# Altium footprint library PcbLib1.PcbLib: 259 footprints (part 9 of 17)
Each footprint in its own frame and in the unit in brackets; x right, y up, seen from the top. Pads: shape width x height; smd on the part's side, far side on the other; paste and mask are expansions set on the pad; w line width, h text height; cw(c..) or ccw(c..) is an arc to the next point about the centre after c.
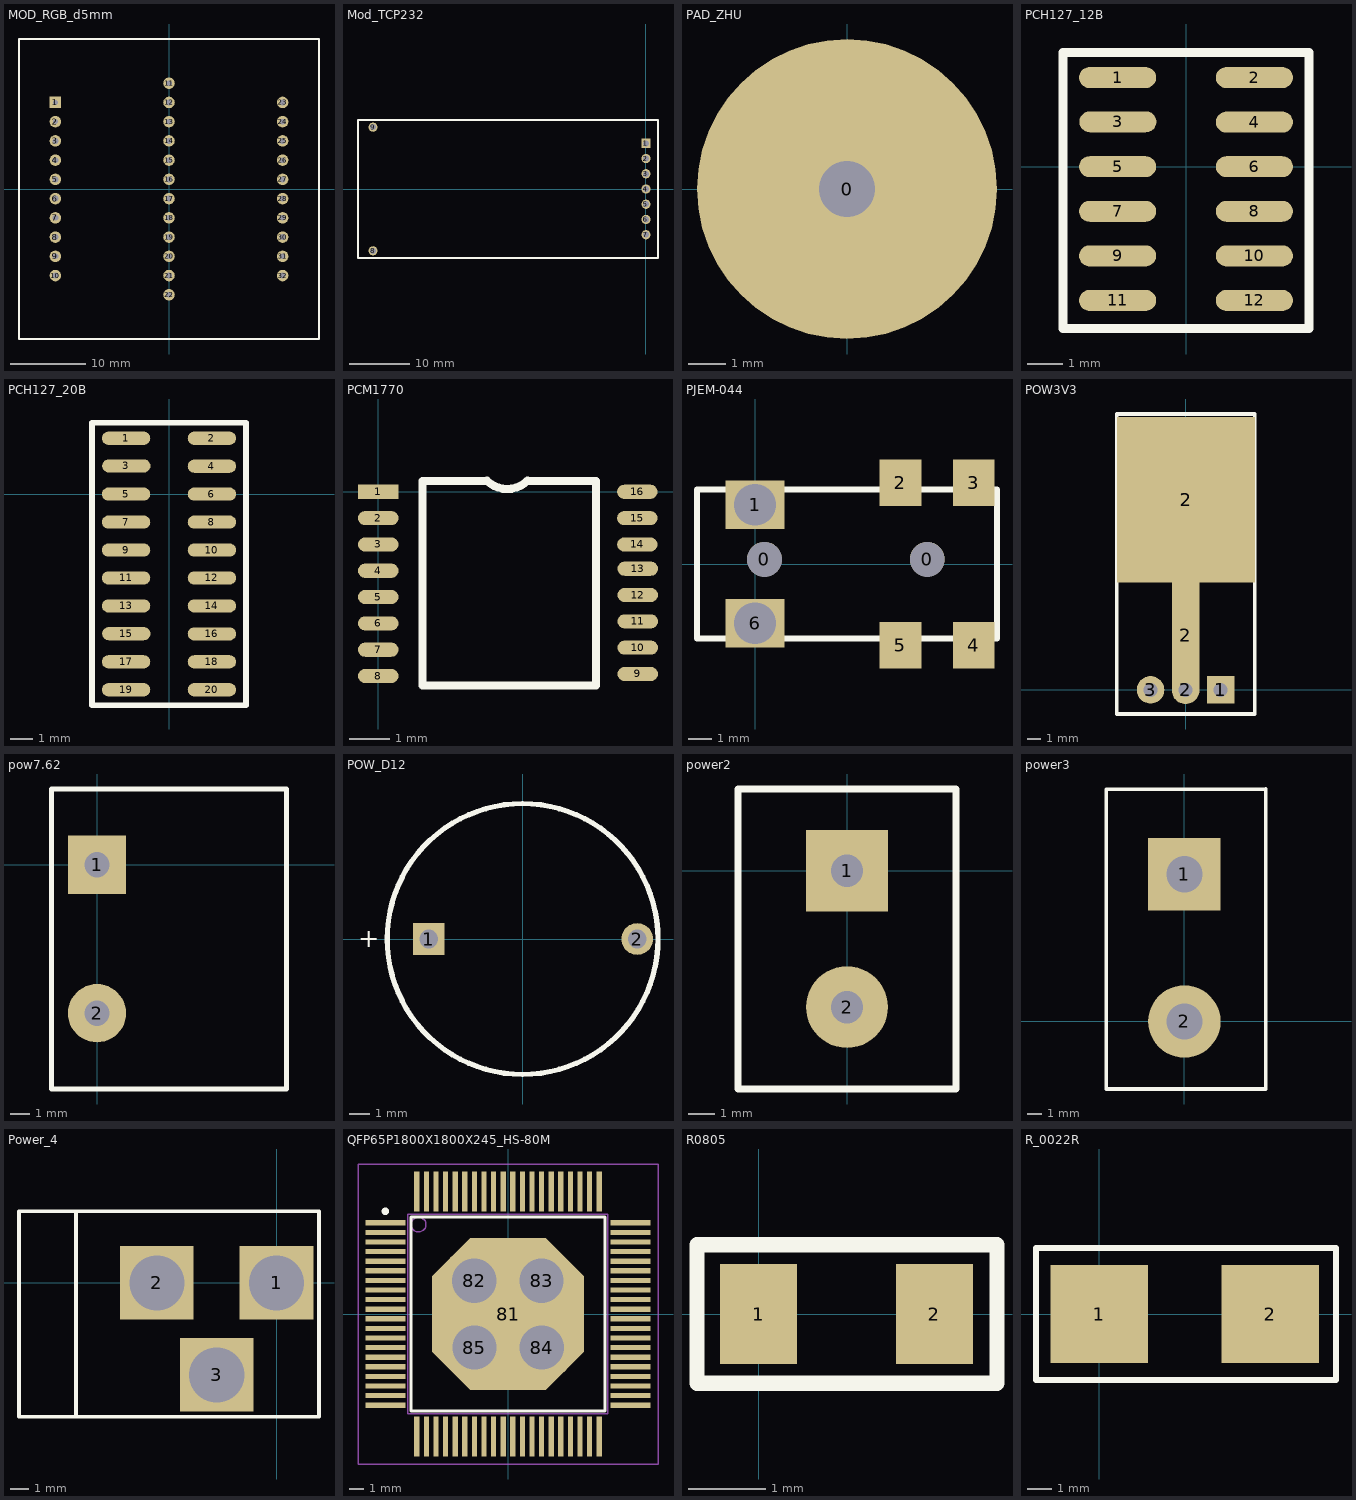
[diagram p8: the footprints below, top view; thin cyan lines are the x and y axes]

## MOD_RGB_d5mm [mil]
pads (32):
  rect 60x60 hole 25: 1(-590.55,450)
  round 60 hole 25: 2(-590.55,350)
  round 60 hole 30: 3(-590.55,250) 4(-590.55,150) 5(-590.55,50) 6(-590.55,-50) 7(-590.55,-150) 8(-590.55,-250) 9(-590.55,-350) 10(-590.55,-450) 11(0,550) 12(0,450) 13(0,350) 14(0,250) 15(0,150) 16(0,50) 17(0,-50) 18(0,-150) 19(0,-250) 20(0,-350) 21(0,-450) 22(0,-550) 23(590.55,450) 24(590.55,350) 25(590.55,250) 26(590.55,150) 27(590.55,50) 28(590.55,-50) 29(590.55,-150) 30(590.55,-250) 31(590.55,-350) 32(590.55,-450)
Top Overlay:
  lines w10: -779.53,-779.53 779.53,-779.53 779.53,779.53 -779.53,779.53 -779.53,-779.53

## Mod_TCP232 [mil]
pads (9):
  rect 60x60 hole 39.37: 1(0,300)
  round 60 hole 39.37: 2(0,200) 3(0,100) 4(0,0) 5(0,-100) 6(0,-200) 7(0,-300) 8(-1791.34,-405.51) 9(-1791.34,405.51)
Top Overlay:
  lines w10: -1889.76,-452.76 -1889.76,452.76 78.74,452.76 78.74,-452.76 -1889.76,-452.76

## PAD_ZHU [mil]
pads (1):
  round 320 on Top hole 60: 0(0,0)

## PCH127_12B [mm]
pads (12):
  oval 2.2x0.6 smd: 1(-1.95,2.54) 2(1.95,2.54) 3(-1.94,1.28) 4(1.95,1.27) 5(-1.95,0) 6(1.95,0) 7(-1.95,-1.27) 8(1.95,-1.27) 9(-1.95,-2.54) 10(1.95,-2.54) 11(-1.95,-3.81) 12(1.95,-3.81)
Top Overlay:
  lines w0.254: -3.5,-4.61 3.5,-4.61 3.5,3.25 -3.5,3.25 -3.5,-4.61

## PCH127_20B [mm]
pads (20):
  oval 2.2x0.6 smd: 1(-1.95,2.54) 2(1.95,2.54) 3(-1.94,1.28) 4(1.95,1.27) 5(-1.95,0) 6(1.95,0) 7(-1.95,-1.27) 8(1.95,-1.27) 9(-1.95,-2.54) 10(1.95,-2.54) 11(-1.95,-3.81) 12(1.95,-3.81) 13(-1.95,-5.08) 14(1.95,-5.08) 15(-1.94,-6.34) 16(1.95,-6.35) 17(-1.95,-7.62) 18(1.95,-7.62) 19(-1.95,-8.89) 20(1.95,-8.89)
Top Overlay:
  lines w0.254: -3.5,-9.6 -3.5,3.25 3.5,3.25 3.5,-9.6 -3.5,-9.6

## PCM1770 [mm]
pads (16):
  rect 1x0.35 smd: 1(0,0)
  oval 1x0.35 smd: 2(0,-0.65) 3(0,-1.3) 4(0,-1.95) 5(0,-2.6) 6(0,-3.25) 7(0,-3.9) 8(0,-4.55) 9(6.41,-4.5) 10(6.41,-3.85) 11(6.41,-3.2) 12(6.41,-2.55) 13(6.41,-1.9) 14(6.4,-1.3) 15(6.4,-0.65) 16(6.4,0)
Top Overlay:
  lines w0.2: 2.68,0.27 1.09,0.27 1.09,-4.78 5.38,-4.78 5.38,0.27 ; 2.684,0.274 ccw(c3.185,0.775) 3.686,0.274 ; 3.69,0.27 5.36,0.27

## PJEM-044 [mm]
pads (8):
  round 1.5 hole 1.5: 0(0.4,0.2) 0(7.4,0.2)
  rect 2.54x2.1 hole 1.8: 1(0,2.55) 6(0,-2.55)
  rect 1.8x2 smd: 2(6.25,3.5) 3(9.4,3.5) 4(9.4,-3.5) 5(6.25,-3.5)
Top Overlay:
  lines w0.254: -2.5,-3.2 10.4,-3.2 10.4,3.2 -2.5,3.2 -2.5,-3.2

## POW3V3 [mm]
pads (5):
  rect 2x2 hole 1: 1(2.54,0)
  round 2 hole 1: 2(0,0) 3(-2.54,0)
  oval 2x10 smd: 2(0,3.97)
  rect 10x12 smd: 2(0.03,13.77)
Top Overlay:
  lines w0.254: -5,-1.75 5,-1.75 5,20 -5,20 -5,-1.75

## pow7.62 [mm]
pads (2):
  rect 3x3 hole 1.3: 1(0,0)
  round 3 hole 1.3: 2(0,-7.62)
Top Overlay:
  lines w0.254: -2.35,-11.52 9.74,-11.52 ; -2.35,-11.49 -2.35,3.88 ; -2.35,3.9 9.73,3.9 ; 9.75,-11.49 9.75,3.89

## POW_D12 [mm]
pads (2):
  rect 1.524x1.524 hole 0.9: 1(-4.5,0)
  round 1.524 hole 0.9: 2(5.5,0)
Top Overlay:
  circle w0.254: c0,0 r6.5
  text "+" at -7.9,-0.4 h0.89

## power2 [mil]
pads (2):
  rect 120x120 hole 47.24: 1(0,0)
  round 120 hole 47.24: 2(0,-200)
Top Overlay:
  lines w10: -160,-320 160,-320 160,120 -160,120 -160,-320

## power3 [mm]
pads (2):
  rect 5x5 hole 2.5: 1(0,10.16)
  round 5 hole 2.5: 2(0,0)
Top Overlay:
  lines w0.254: -5.39,-4.66 -5.39,16.04 5.61,16.05 5.61,-4.66 -5.39,-4.66 ; -5.39,-4.66 -5.39,-4.66

## Power_4 [mm]
pads (3):
  rect 4x4 hole 3: 1(0,0) 2(-6.5,0) 3(-3.25,-5)
Top Overlay:
  lines w0.2: -10.9,-7.27 -10.9,3.89 ; -14,-7.27 -14,3.89 2.31,3.89 2.31,-7.27 -14,-7.27

## QFP65P1800X1800X245_HS-80M [mm] "QFP, 80-Leads, Body 18.0x18.0mm (max), Pitch 0.65mm, IPC Low Density"
height 2.45
pads (85):
  rect 2.7x0.35 smd: 1(-8.3,6.175) 2(-8.3,5.525) 3(-8.3,4.875) 4(-8.3,4.225) 5(-8.3,3.575) 6(-8.3,2.925) 7(-8.3,2.275) 8(-8.3,1.625) 9(-8.3,0.975) 10(-8.3,0.325) 11(-8.3,-0.325) 12(-8.3,-0.975) 13(-8.3,-1.625) 14(-8.3,-2.275) 15(-8.3,-2.925) 16(-8.3,-3.575) 17(-8.3,-4.225) 18(-8.3,-4.875) 19(-8.3,-5.525) 20(-8.3,-6.175) 41(8.3,-6.175) 42(8.3,-5.525) 43(8.3,-4.875) 44(8.3,-4.225) 45(8.3,-3.575) 46(8.3,-2.925) 47(8.3,-2.275) 48(8.3,-1.625) 49(8.3,-0.975) 50(8.3,-0.325) 51(8.3,0.325) 52(8.3,0.975) 53(8.3,1.625) 54(8.3,2.275) 55(8.3,2.925) 56(8.3,3.575) 57(8.3,4.225) 58(8.3,4.875) 59(8.3,5.525) 60(8.3,6.175)
  rect 0.35x2.7 smd: 21(-6.175,-8.3) 22(-5.525,-8.3) 23(-4.875,-8.3) 24(-4.225,-8.3) 25(-3.575,-8.3) 26(-2.925,-8.3) 27(-2.275,-8.3) 28(-1.625,-8.3) 29(-0.975,-8.3) 30(-0.325,-8.3) 31(0.325,-8.3) 32(0.975,-8.3) 33(1.625,-8.3) 34(2.275,-8.3) 35(2.925,-8.3) 36(3.575,-8.3) 37(4.225,-8.3) 38(4.875,-8.3) 39(5.525,-8.3) 40(6.175,-8.3) 61(6.175,8.3) 62(5.525,8.3) 63(4.875,8.3) 64(4.225,8.3) 65(3.575,8.3) 66(2.925,8.3) 67(2.275,8.3) 68(1.625,8.3) 69(0.975,8.3) 70(0.325,8.3) 71(-0.325,8.3) 72(-0.975,8.3) 73(-1.625,8.3) 74(-2.275,8.3) 75(-2.925,8.3) 76(-3.575,8.3) 77(-4.225,8.3) 78(-4.875,8.3) 79(-5.525,8.3) 80(-6.175,8.3)
  oct 10.3x10.3 smd: 81(0,0)
  round 4.5 hole 3: 82(-2.28,2.25) 83(2.27,2.24) 84(2.28,-2.27) 85(-2.27,-2.27)
Top Overlay:
  circle w0.25: c-8.3,6.95 r0.125
  lines w0.2: -6.55,-6.55 6.55,-6.55 6.55,6.55 -6.55,6.55 -6.55,-6.55
Mechanical 13:
  circle w0.1: c-6.05,6.05 r0.5
  lines w0.1: -6.77,-6.75 6.75,-6.75 6.75,6.75 -6.77,6.75 -6.77,-6.75
Mechanical 15:
  lines w0.1: -0.5,0 0.5,0 ; 0,-0.5 0,0.5 ; -10.15,-10.15 10.15,-10.15 10.15,10.15 -10.15,10.15 -10.15,-10.15
3D body: height 2.45, standoff 0.25, extent -7,-7 7,7

## R0805 [mm]
pads (2):
  rect 1x1.3 smd: 1(0,0) 2(2.286,0)
Top Overlay:
  lines w0.2: -0.8,-0.9 -0.8,0.9 3.1,0.9 3.1,-0.9 -0.8,-0.9

## R_0022R [mm]
pads (2):
  rect 4x4 smd: 1(0,0) 2(7,0)
Top Overlay:
  lines w0.254: -2.6,-2.7 -2.6,2.7 9.7,2.7 9.7,-2.7 -2.6,-2.7